# EAGLE library part SN74LVC8T245 (library pixhawk2-updated)
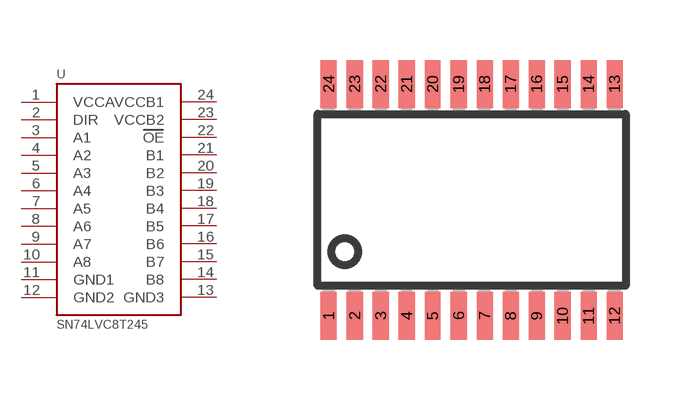
[diagram p21: symbol with the pads of R-PDSO-G24; footprint R-PDSO-G24]

Designator prefix -

## SN74LVC8T245  [R-PDSO-G24]
1  VCCA
2  DIR
3  A1
4  A2
5  A3
6  A4
7  A5
8  A6
9  A7
10  A8
11  GND1
12  GND2
13  GND3
14  B8
15  B7
16  B6
17  B5
18  B4
19  B3
20  B2
21  B1
22  OE
23  VCCB2
24  VCCB1

## Footprint R-PDSO-G24 (pad centres in mm)
PLASTIC SMALL-OUTLINE PACKAGE SO 24 JEDEC MO-153 Source: www.ti.com/.. slvs087l.pdf
smd 0.4 x 1.2: 1 -3.575,-2.9; 2 -2.925,-2.9; 3 -2.275,-2.9; 4 -1.625,-2.9; 5 -0.975,-2.9; 6 -0.325,-2.9; 7 0.325,-2.9; 8 0.975,-2.9; 9 1.625,-2.9; 10 2.275,-2.9; 11 2.925,-2.9; 12 3.575,-2.9; 13 3.575,2.9; 14 2.925,2.9; 15 2.275,2.9; 16 1.625,2.9; 17 0.975,2.9; 18 0.325,2.9; 19 -0.325,2.9; 20 -0.975,2.9; 21 -1.625,2.9; 22 -2.275,2.9; 23 -2.925,2.9; 24 -3.575,2.9